# Altium schematic symbol library 原理图-元件库.SCHLIB: 9 symbols
Pins are listed as number, name and electrical type; pins without a type are passive.

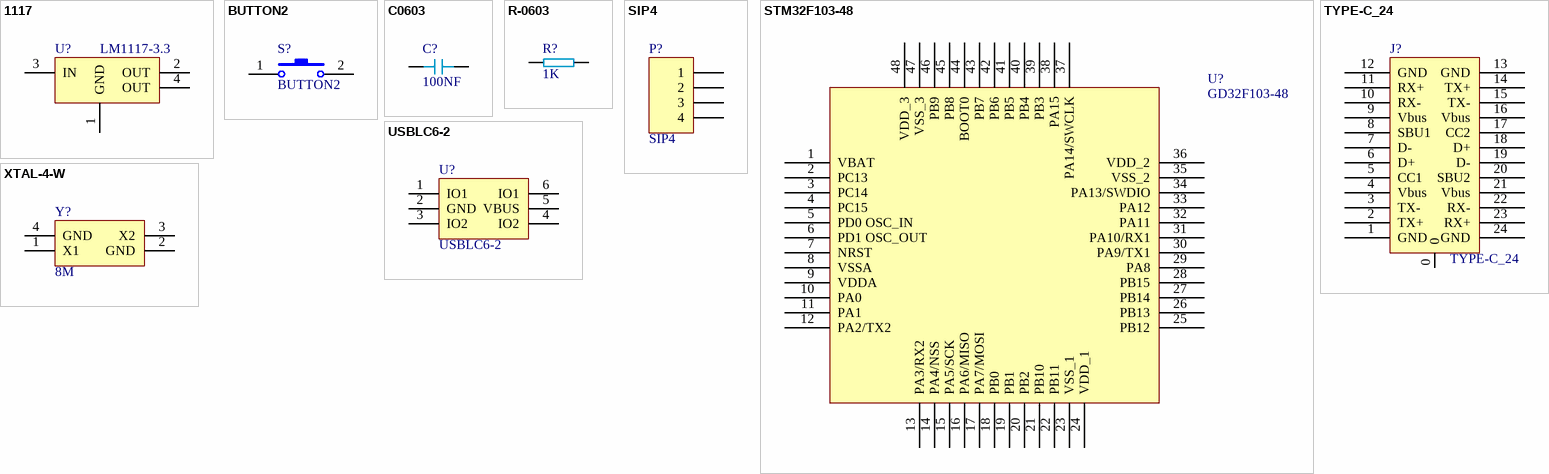
[diagram p0: symbols 1117 to XTAL-4-W]

## 1117
designator U?, comment LM1117-3.3
芯片; LatestRevisionDate: 17-Jul-2002; LatestRevisionNote: Re-released for DXP Platform.; Publisher: Altium Limited
footprint SOT223
pins: 1 GND, 2 OUT, 3 IN, 4 OUT

## BUTTON2
designator S?
按钮; Published: 24-Mar-1999; LatestRevisionDate: 17-Jul-2002; LatestRevisionNote: Re-released for DXP Platform.; PackageReference: SPST-2; Publisher: Altium Limited; PackageDescription: Switch; 2 Leads
footprint BUTTON-2-DIP-90
footprint BUTTON-SMD-6*6-2
footprint BUTTON-SMD-7*7
footprint KEY
pins: 1, 2

## C0603
designator C?, comment 100NF
贴片电容
footprint C0603
footprint C0402
footprint C0805
pins: 1, 2

## R-0603
designator R?, comment 1K
贴片电阻
footprint R0603
pins: 1, 2

## SIP4
designator P?
连接器; LatestRevisionDate: 17-Jul-2002; LatestRevisionNote: Re-released for DXP Platform.; Publisher: Altium Limited
footprint SIP4
pins: 1, 2, 3, 4

## STM32F103-48
designator U?, comment GD32F103-48
footprint LQFP48
pins: 1 VBAT, 2 PC13, 3 PC14, 4 PC15, 5 PD0 OSC_IN, 6 PD1 OSC_OUT, 7 NRST, 8 VSSA, 9 VDDA, 10 PA0, 11 PA1, 12 PA2/TX2, 13 PA3/RX2, 14 PA4/NSS, 15 PA5/SCK, 16 PA6/MISO, 17 PA7/MOSI, 18 PB0, 19 PB1, 20 PB2, 21 PB10, 22 PB11, 23 VSS_1, 24 VDD_1, 25 PB12, 26 PB13, 27 PB14, 28 PB15, 29 PA8, 30 PA9/TX1, 31 PA10/RX1, 32 PA11, 33 PA12, 34 PA13/SWDIO, 35 VSS_2, 36 VDD_2, 37 PA14/SWCLK, 38 PA15, 39 PB3, 40 PB4, 41 PB5, 42 PB6, 43 PB7, 44 BOOT0, 45 PB8, 46 PB9, 47 VSS_3, 48 VDD_3

## TYPE-C_24
designator J?
footprint TYPE-C24P
footprint TYPE-C24P
pins: 0, 1 GND, 2 TX+, 3 TX-, 4 Vbus, 5 CC1, 6 D+, 7 D-, 8 SBU1, 9 Vbus, 10 RX-, 11 RX+, 12 GND, 13 GND, 14 TX+, 15 TX-, 16 Vbus, 17 CC2, 18 D+, 19 D-, 20 SBU2, 21 Vbus, 22 RX-, 23 RX+, 24 GND

## USBLC6-2
designator U?
footprint SOT-23-6
footprint SOT23-6
pins: 1 IO1, 2 GND, 3 IO2, 4 IO2, 5 VBUS, 6 IO1

## XTAL-4-W
designator Y?, comment 8M
无源晶振; Published: 8-Jun-2000; LatestRevisionDate: 17-Jul-2002; LatestRevisionNote: Re-released for DXP Platform.; PackageReference: R38; Publisher: Altium Limited; PackageDescription: Crystal, Thru-Hole; 2 Leads; Body 3.1 x 8.2 mm (Dia.xH)
footprint XTAL-3225-4
pins: 1 X1, 2 GND, 3 X2, 4 GND